# Altium footprint library FILLS_TEST.PcbLib: 1 footprints
Each footprint in its own frame and in the unit in brackets; x right, y up, seen from the top. Pads: shape width x height; smd on the part's side, far side on the other; paste and mask are expansions set on the pad; w line width, h text height; cw(c..) or ccw(c..) is an arc to the next point about the centre after c.
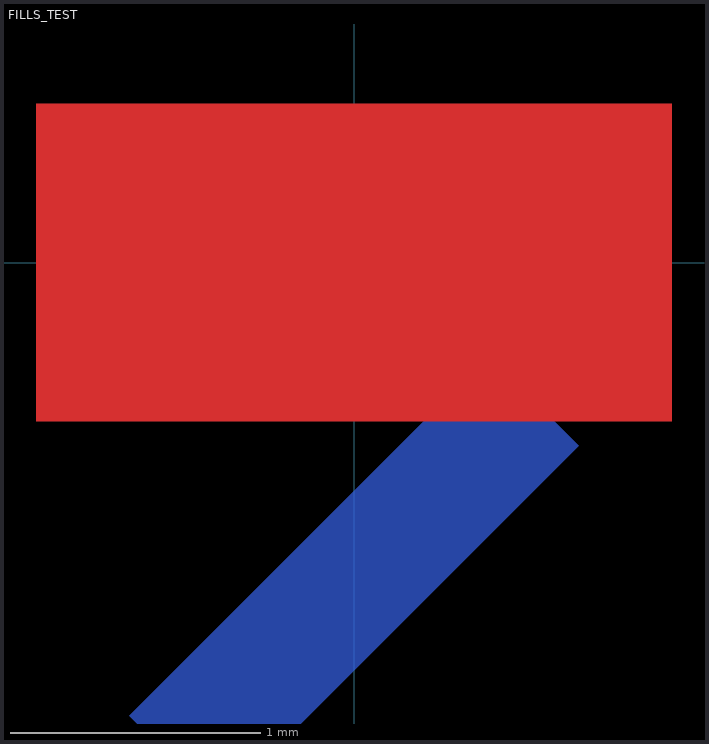
[diagram p0: the footprint, top view; thin cyan lines are the x and y axes]

## FILLS_TEST [mm] "Fill regions"
Top Layer:
  rectangle: -1.27,-0.635 1.27,0.635
Bottom Layer:
  region: -0.539,-2.168 0.898,-0.731 0.539,-0.372 -0.898,-1.809